# Altium integrated library CK Switch.IntLib: 8 symbols
Pins are listed as number, name and electrical type; pins without a type are passive.

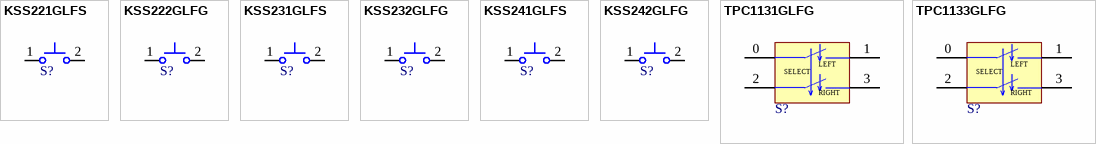
[diagram p0: symbols KSS221GLFS to TPC1133GLFG]

## KSS221GLFS
designator S?
Switch, Subminiature Side-Actuated Tact, SMT, KSS Series, Std Actuator, 2 Gull Wing Leads, SPST, 2N Force, Silver Contact; PCB_Layout: Complies with manufacturer's recommendation.; Published: 14-Mar-2008; DatasheetVersion: Aug-2007; PackageVersion: Aug-2007; PackageReference: KSS-2G; Publisher: Altium Limited; PackageDescription: Subminiature SMT Side Actuated Switch, Body 7 x 3.5 mm (LxW); ComponentLink1Description: Manufacturer Link; ComponentLink1URL: http://www.ck-components.com/; ComponentLink2Description: Datasheet; ComponentLink2URL: http://www.ck-components.com/media/pdf/catalogs/Tactile_Switches%5CKSS_series_Tactile_August_2007.pdf
footprint KSS-2G (Switch, Side Tact, SM; 2 Leads; Body 7x3.5mm (LxW))
pins: 1, 2

## KSS222GLFG
designator S?
Switch, Subminiature Side-Actuated Tact, SMT, KSS Series, Std Actuator, 2 Gull Wing Leads, SPST, 2N Force, Gold Contact; PCB_Layout: Complies with manufacturer's recommendation.; Published: 14-Mar-2008; DatasheetVersion: Aug-2007; PackageVersion: Aug-2007; PackageReference: KSS-2G; Publisher: Altium Limited; PackageDescription: Subminiature SMT Side Actuated Switch, Body 7 x 3.5 mm (LxW); ComponentLink1Description: Manufacturer Link; ComponentLink1URL: http://www.ck-components.com/; ComponentLink2Description: Datasheet; ComponentLink2URL: http://www.ck-components.com/media/pdf/catalogs/Tactile_Switches%5CKSS_series_Tactile_August_2007.pdf
footprint KSS-2G (Switch, Side Tact, SM; 2 Leads; Body 7x3.5mm (LxW))
pins: 1, 2

## KSS231GLFS
designator S?
Switch, Subminiature Side-Actuated Tact, SMT, KSS Series, Std Actuator, 2 Gull Wing Leads, SPST, 2.5N Force, Silver Contact; PCB_Layout: Complies with manufacturer's recommendation.; Published: 14-Mar-2008; DatasheetVersion: Aug-2007; PackageVersion: Aug-2007; PackageReference: KSS-2G; Publisher: Altium Limited; PackageDescription: Subminiature SMT Side Actuated Switch, Body 7 x 3.5 mm (LxW); ComponentLink1Description: Manufacturer Link; ComponentLink1URL: http://www.ck-components.com/; ComponentLink2Description: Datasheet; ComponentLink2URL: http://www.ck-components.com/media/pdf/catalogs/Tactile_Switches%5CKSS_series_Tactile_August_2007.pdf
footprint KSS-2G (Switch, Side Tact, SM; 2 Leads; Body 7x3.5mm (LxW))
pins: 1, 2

## KSS232GLFG
designator S?
Switch, Subminiature Side-Actuated Tact, SMT, KSS Series, Std Actuator, 2 Gull Wing Leads, SPST, 2.5N Force, Gold Contact; PCB_Layout: Complies with manufacturer's recommendation.; Published: 14-Mar-2008; DatasheetVersion: Aug-2007; PackageVersion: Aug-2007; PackageReference: KSS-2G; Publisher: Altium Limited; PackageDescription: Subminiature SMT Side Actuated Switch, Body 7 x 3.5 mm (LxW); ComponentLink1Description: Manufacturer Link; ComponentLink1URL: http://www.ck-components.com/; ComponentLink2Description: Datasheet; ComponentLink2URL: http://www.ck-components.com/media/pdf/catalogs/Tactile_Switches%5CKSS_series_Tactile_August_2007.pdf
footprint KSS-2G (Switch, Side Tact, SM; 2 Leads; Body 7x3.5mm (LxW))
pins: 1, 2

## KSS241GLFS
designator S?
Switch, Subminiature Side-Actuated Tact, SMT, KSS Series, Std Actuator, 2 Gull Wing Leads, SPST, 4N Force, Silver Contact; PCB_Layout: Complies with manufacturer's recommendation.; Published: 14-Mar-2008; DatasheetVersion: Aug-2007; PackageVersion: Aug-2007; PackageReference: KSS-2G; Publisher: Altium Limited; PackageDescription: Subminiature SMT Side Actuated Switch, Body 7 x 3.5 mm (LxW); ComponentLink1Description: Manufacturer Link; ComponentLink1URL: http://www.ck-components.com/; ComponentLink2Description: Datasheet; ComponentLink2URL: http://www.ck-components.com/media/pdf/catalogs/Tactile_Switches%5CKSS_series_Tactile_August_2007.pdf
footprint KSS-2G (Switch, Side Tact, SM; 2 Leads; Body 7x3.5mm (LxW))
pins: 1, 2

## KSS242GLFG
designator S?
Switch, Subminiature Side-Actuated Tact, SMT, KSS Series, Std Actuator, 2 Gull Wing Leads, SPST, 4N Force, Gold Contact; PCB_Layout: Complies with manufacturer's recommendation.; Published: 14-Mar-2008; DatasheetVersion: Aug-2007; PackageVersion: Aug-2007; PackageReference: KSS-2G; Publisher: Altium Limited; PackageDescription: Subminiature SMT Side Actuated Switch, Body 7 x 3.5 mm (LxW); ComponentLink1Description: Manufacturer Link; ComponentLink1URL: http://www.ck-components.com/; ComponentLink2Description: Datasheet; ComponentLink2URL: http://www.ck-components.com/media/pdf/catalogs/Tactile_Switches%5CKSS_series_Tactile_August_2007.pdf
footprint KSS-2G (Switch, Side Tact, SM; 2 Leads; Body 7x3.5mm (LxW))
pins: 1, 2

## TPC1131GLFG
designator S?
Switch, Ultra-miniature Tri-direction Scan Tact, SMT, TPC Series, Integrated Button, Silver Contact; Published: 30-May-2008; DatasheetVersion: Feb-2008; PackageVersion: Feb-2008; PackageReference: TPC113; Publisher: Altium Limited; PackageDescription: Ultra-miniature SMT Side Actuated 3-Way Switch, Body 13.8 x 10.55 mm (LxW); ComponentLink1Description: Manufacturer Link; ComponentLink1URL: http://www.ck-components.com/; ComponentLink2Description: Datasheet; ComponentLink2URL: http://www.ck-components.com/13332/tpc_4feb.pdf/
footprint TPC113 (Switch, Side 3-Way, SM; 4 Leads; Body 13.8x10.55mm (LxW))
pins: 0, 1, 2, 3
text: LEFT; SELECT; RIGHT

## TPC1133GLFG
designator S?
Switch, Ultra-miniature Tri-direction Scan Tact, SMT, TPC Series, Integrated Button, Gold Contact; Published: 30-May-2008; DatasheetVersion: Feb-2008; PackageVersion: Feb-2008; PackageReference: TPC113; Publisher: Altium Limited; PackageDescription: Ultra-miniature SMT Side Actuated 3-Way Switch, Body 13.8 x 10.55 mm (LxW); ComponentLink1Description: Manufacturer Link; ComponentLink1URL: http://www.ck-components.com/; ComponentLink2Description: Datasheet; ComponentLink2URL: http://www.ck-components.com/13332/tpc_4feb.pdf/
footprint TPC113 (Switch, Side 3-Way, SM; 4 Leads; Body 13.8x10.55mm (LxW))
pins: 0, 1, 2, 3
text: LEFT; SELECT; RIGHT